# EAGLE library part TL072 (library Bauteile)
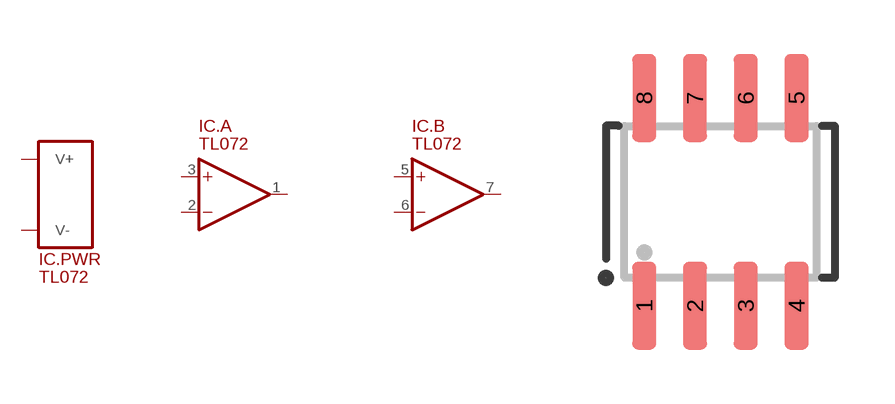
[diagram p69: symbol with the pads of SO8; footprint SO8]

Designator prefix IC; gates .PWR=SUPPLY_V+/V- .A=OP .B=OP

## TL072  [SO8]
1  .A:OUT
2  .A:-IN
3  .A:+IN
4  .PWR:V-
5  .B:+IN
6  .B:-IN
7  .B:OUT
8  .PWR:V+

## Footprint SO8 (pad centres in mm)
smd 0.6 x 2.2: 1 -1.905,-2.6; 2 -0.635,-2.6; 3 0.635,-2.6; 4 1.905,-2.6; 5 1.905,2.6; 6 0.635,2.6; 7 -0.635,2.6; 8 -1.905,2.6